# Altium footprint library WR-FPC_1.00mm.PcbLib: 115 footprints (part 1 of 8)
Each footprint in its own frame and in the unit in brackets; x right, y up, seen from the top. Pads: shape width x height; smd on the part's side, far side on the other; paste and mask are expansions set on the pad; w line width, h text height; cw(c..) or ccw(c..) is an arc to the next point about the centre after c.
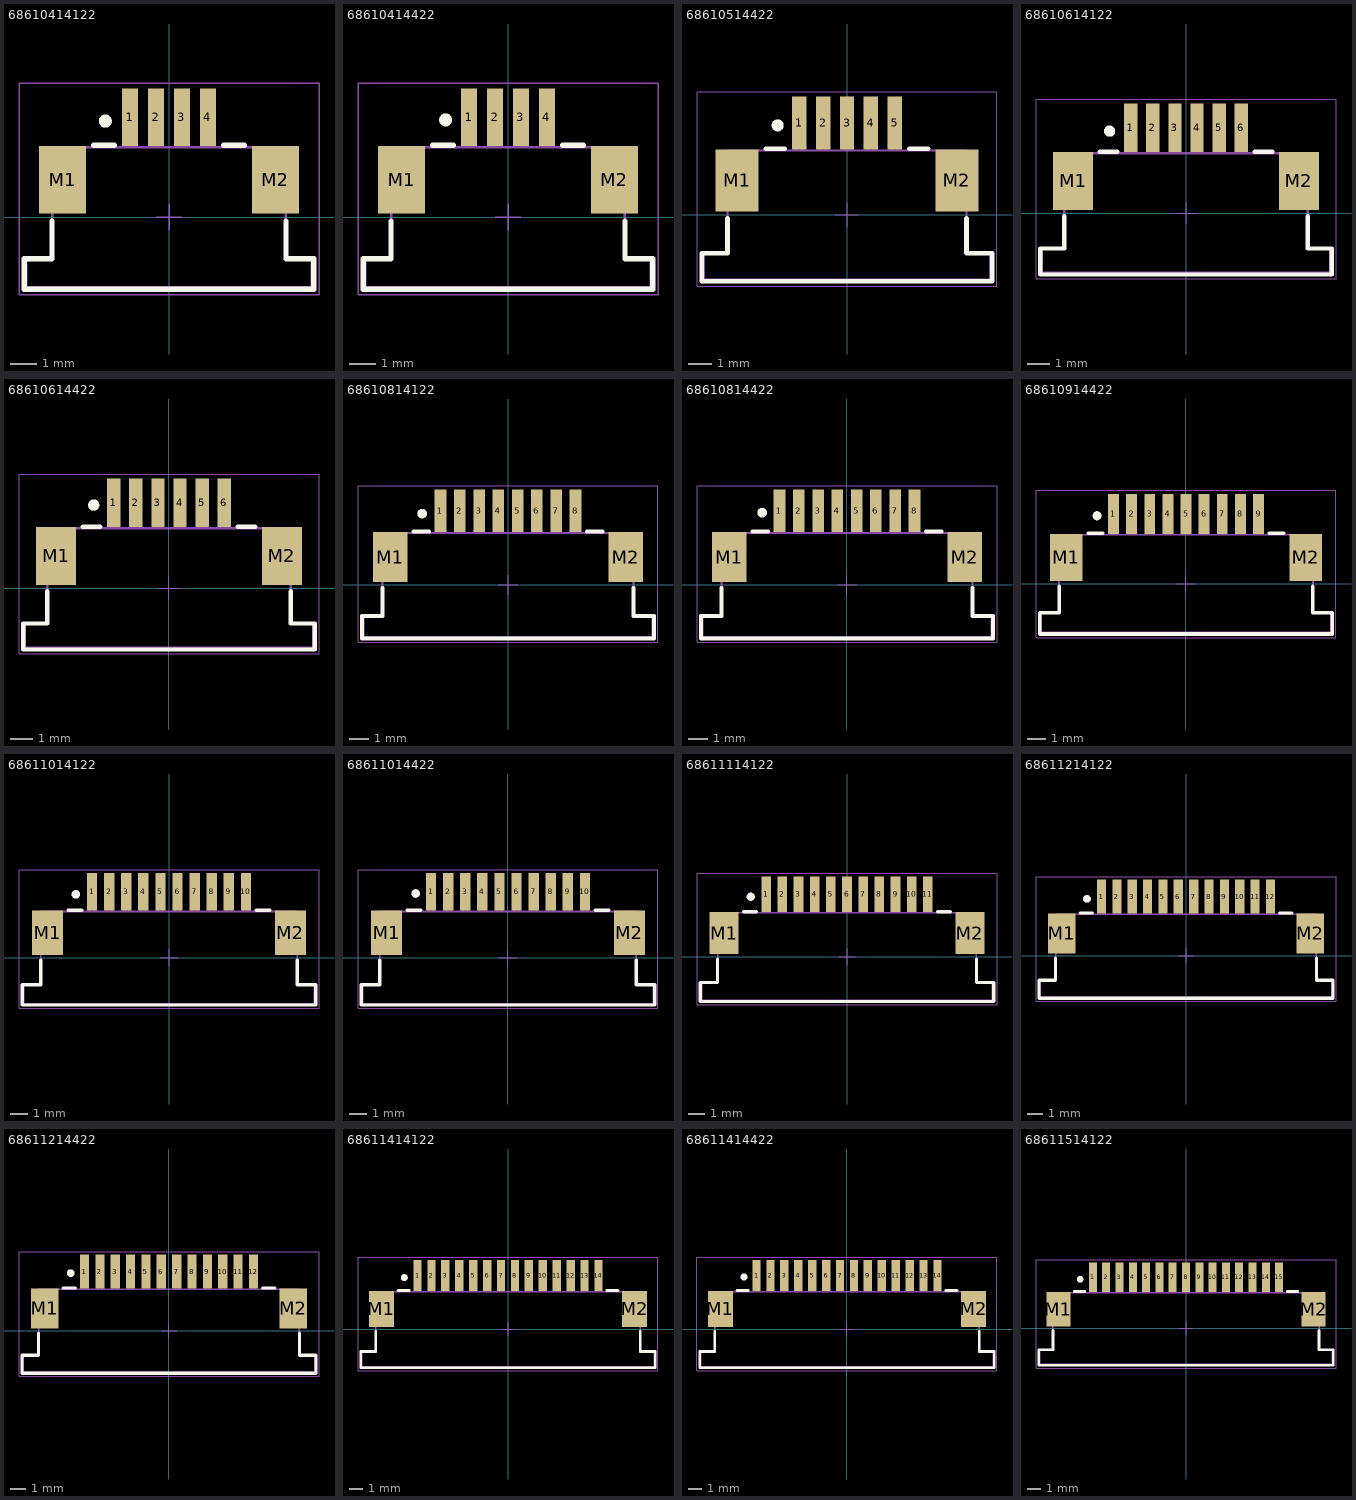
[diagram p0: the footprints below, top view; thin cyan lines are the x and y axes]

## 68610414122 [mm] "ZIF Connectors, Horizontal, Top Contact, pitch 1mm, 4p"
height 3.15
pads (6):
  rect 0.6x2.2 smd: 1(-1.5,3.85) 2(-0.5,3.85) 3(0.5,3.85) 4(1.5,3.85)
  rect 1.8x2.6 smd: M1(-4.1,1.45) M2(4.1,1.45)
Top Overlay:
  circle w0.25: c-2.45,3.7 r0.125
  lines w0.2: -4.5,-0.15 -4.5,-1.6 -5.575,-1.6 -5.575,-2.775 5.575,-2.775 5.575,-1.6 4.5,-1.6 4.5,-0.15 ; -2.9,2.775 -2.1,2.775 ; 2.1,2.775 2.9,2.775
Top Designator:
  text ".Designator" at -7.498,-0.5 h1.5
Top Component Outline:
  lines w0.1: -1.64,2.7 -1.64,4.4 -1.36,4.4 -1.36,2.7 ; -0.64,2.7 -0.64,4.4 -0.36,4.4 -0.36,2.7 ; 0.36,2.7 0.36,4.4 0.64,4.4 0.64,2.7 ; 1.36,2.7 1.36,4.4 1.64,4.4 1.64,2.7 ; -5.5,-2.7 5.5,-2.7 5.5,-1.6 4.5,-1.6 4.5,2.7 -4.5,2.7 -4.5,-1.6 -5.5,-1.6 -5.5,-2.7
Top 3D Body:
  lines w0.1: -1.64,2.7 -1.64,4.4 -1.36,4.4 -1.36,2.7 ; -0.64,2.7 -0.64,4.4 -0.36,4.4 -0.36,2.7 ; 0.36,2.7 0.36,4.4 0.64,4.4 0.64,2.7 ; 1.36,2.7 1.36,4.4 1.64,4.4 1.64,2.7 ; -5.5,-2.7 -5.5,-1.6 -4.5,-1.6 -4.5,2.7 4.5,2.7 4.5,-1.6 5.5,-1.6 5.5,-2.7 -5.5,-2.7
Top Courtyard:
  lines w0.05: -0.5,0 0.5,0 ; 0,-0.5 0,0.5 ; -5.775,-2.975 -5.775,5.15 5.775,5.15 5.775,-2.975 -5.775,-2.975
3D body "68610414122.stp": height 3.02, standoff 0.02, extent -5.5,-2.7 5.5,4.4

## 68610414422 [mm] "ZIF Connectors, Horizontal, Bottom Contact, pitch 1mm, 4p"
height 3.15
pads (6):
  rect 0.6x2.2 smd: 1(-1.5,3.85) 2(-0.5,3.85) 3(0.5,3.85) 4(1.5,3.85)
  rect 1.8x2.6 smd: M1(-4.1,1.45) M2(4.1,1.45)
Top Overlay:
  circle w0.25: c-2.4,3.75 r0.125
  lines w0.2: -4.5,-0.15 -4.5,-1.6 -5.575,-1.6 -5.575,-2.775 5.575,-2.775 5.575,-1.6 4.5,-1.6 4.5,-0.15 ; -2.9,2.775 -2.1,2.775 ; 2.1,2.775 2.9,2.775
Top Designator:
  text ".Designator" at -7.498,-0.5 h1.5
Top Component Outline:
  lines w0.1: -1.62,2.7 -1.62,4.4 -1.38,4.4 -1.38,2.7 ; -0.62,2.7 -0.62,4.4 -0.38,4.4 -0.38,2.7 ; 0.38,2.7 0.38,4.4 0.62,4.4 0.62,2.7 ; 1.38,2.7 1.38,4.4 1.62,4.4 1.62,2.7 ; -5.5,-2.7 -5.5,-1.6 -4.5,-1.6 -4.5,2.7 4.5,2.7 4.5,-1.6 5.5,-1.6 5.5,-2.7 -5.5,-2.7
Top 3D Body:
  lines w0.1: -1.62,2.7 -1.62,4.4 -1.38,4.4 -1.38,2.7 ; -0.62,2.7 -0.62,4.4 -0.38,4.4 -0.38,2.7 ; 0.38,2.7 0.38,4.4 0.62,4.4 0.62,2.7 ; 1.38,2.7 1.38,4.4 1.62,4.4 1.62,2.7 ; -5.5,-2.7 5.5,-2.7 5.5,-1.6 4.5,-1.6 4.5,2.7 -4.5,2.7 -4.5,-1.6 -5.5,-1.6 -5.5,-2.7
Top Courtyard:
  lines w0.05: -0.5,0 0.5,0 ; 0,-0.5 0,0.5 ; -5.775,-2.975 -5.775,5.15 5.775,5.15 5.775,-2.975 -5.775,-2.975
3D body "68610414422.stp": height 3.02, standoff 0.01, extent -5.5,-2.7 5.5,4.4

## 68610514422 [mm] "ZIF Connectors, Horizontal, Bottom Contact, pitch 1mm, 5p"
height 3.15
pads (7):
  rect 0.6x2.2 smd: 1(-2,3.85) 2(-1,3.85) 3(0,3.85) 4(1,3.85) 5(2,3.85)
  rect 1.8x2.6 smd: M1(-4.6,1.45) M2(4.6,1.45)
Top Overlay:
  circle w0.25: c-2.9,3.75 r0.125
  lines w0.2: -5,-0.15 -5,-1.6 -6.075,-1.6 -6.075,-2.775 6.075,-2.775 6.075,-1.6 5,-1.6 5,-0.15 ; -3.4,2.775 -2.6,2.775 ; 2.6,2.775 3.4,2.775
Top Designator:
  text ".Designator" at -7.498,-0.5 h1.5
Top Component Outline:
  lines w0.1: -2.12,2.7 -2.12,4.4 -1.88,4.4 -1.88,2.7 ; -1.12,2.7 -1.12,4.4 -0.88,4.4 -0.88,2.7 ; -0.12,2.7 -0.12,4.4 0.12,4.4 0.12,2.7 ; 0.88,2.7 0.88,4.4 1.12,4.4 1.12,2.7 ; 1.88,2.7 1.88,4.4 2.12,4.4 2.12,2.7 ; -6,-2.7 6,-2.7 6,-1.6 5,-1.6 5,2.7 -5,2.7 -5,-1.6 -6,-1.6 -6,-2.7
Top 3D Body:
  lines w0.1: -2.12,2.7 -2.12,4.4 -1.88,4.4 -1.88,2.7 ; -1.12,2.7 -1.12,4.4 -0.88,4.4 -0.88,2.7 ; -0.12,2.7 -0.12,4.4 0.12,4.4 0.12,2.7 ; 0.88,2.7 0.88,4.4 1.12,4.4 1.12,2.7 ; 1.88,2.7 1.88,4.4 2.12,4.4 2.12,2.7 ; -6,-2.7 -6,-1.6 -5,-1.6 -5,2.7 5,2.7 5,-1.6 6,-1.6 6,-2.7 -6,-2.7
Top Courtyard:
  lines w0.05: -0.5,0 0.5,0 ; 0,-0.5 0,0.5 ; -6.275,-2.975 6.275,-2.975 6.275,5.15 -6.275,5.15 -6.275,-2.975
3D body "68610514422.stp": height 3.02, standoff 0.01, extent -6,-2.7 6,4.4

## 68610614122 [mm] "ZIF Connectors, Horizontal, Top Contact, pitch 1mm, 6p"
height 3.15
pads (8):
  rect 0.6x2.2 smd: 1(-2.5,3.85) 2(-1.5,3.85) 3(-0.5,3.85) 4(0.5,3.85) 5(1.5,3.85) 6(2.5,3.85)
  rect 1.8x2.6 smd: M1(-5.1,1.45) M2(5.1,1.45)
Top Overlay:
  circle w0.25: c-3.45,3.7 r0.125
  lines w0.2: -5.5,-0.15 -5.5,-1.6 -6.575,-1.6 -6.575,-2.775 6.575,-2.775 6.575,-1.6 5.5,-1.6 5.5,-0.15 ; -3.9,2.775 -3.1,2.775 ; 3.1,2.775 3.9,2.775
Top Designator:
  text ".Designator" at -7.498,-0.5 h1.5
Top Component Outline:
  lines w0.1: -2.64,2.7 -2.64,4.4 -2.36,4.4 -2.36,2.7 ; -1.64,2.7 -1.64,4.4 -1.36,4.4 -1.36,2.7 ; -0.64,2.7 -0.64,4.4 -0.36,4.4 -0.36,2.7 ; 0.36,2.7 0.36,4.4 0.64,4.4 0.64,2.7 ; 1.36,2.7 1.36,4.4 1.64,4.4 1.64,2.7 ; 2.36,2.7 2.36,4.4 2.64,4.4 2.64,2.7 ; -6.5,-2.7 6.5,-2.7 6.5,-1.6 5.5,-1.6 5.5,2.7 -5.5,2.7 -5.5,-1.6 -6.5,-1.6 -6.5,-2.7
Top 3D Body:
  lines w0.1: -2.64,2.7 -2.64,4.4 -2.36,4.4 -2.36,2.7 ; -1.64,2.7 -1.64,4.4 -1.36,4.4 -1.36,2.7 ; -0.64,2.7 -0.64,4.4 -0.36,4.4 -0.36,2.7 ; 0.36,2.7 0.36,4.4 0.64,4.4 0.64,2.7 ; 1.36,2.7 1.36,4.4 1.64,4.4 1.64,2.7 ; 2.36,2.7 2.36,4.4 2.64,4.4 2.64,2.7 ; -6.5,-2.7 -6.5,-1.6 -5.5,-1.6 -5.5,2.7 5.5,2.7 5.5,-1.6 6.5,-1.6 6.5,-2.7 -6.5,-2.7
Top Courtyard:
  lines w0.05: -0.5,0 0.5,0 ; 0,-0.5 0,0.5 ; -6.775,-2.975 -6.775,5.15 6.775,5.15 6.775,-2.975 -6.775,-2.975
3D body "68610614122.stp": height 3.02, standoff 0.02, extent -6.5,-2.7 6.5,4.4

## 68610614422 [mm] "ZIF Connectors, Horizontal, Bottom Contact, pitch 1mm, 6p"
height 3.15
pads (8):
  rect 0.6x2.2 smd: 1(-2.5,3.85) 2(-1.5,3.85) 3(-0.5,3.85) 4(0.5,3.85) 5(1.5,3.85) 6(2.5,3.85)
  rect 1.8x2.6 smd: M1(-5.1,1.45) M2(5.1,1.45)
Top Overlay:
  circle w0.25: c-3.4,3.75 r0.125
  lines w0.2: -5.5,-0.15 -5.5,-1.6 -6.575,-1.6 -6.575,-2.775 6.575,-2.775 6.575,-1.6 5.5,-1.6 5.5,-0.15 ; -3.9,2.775 -3.1,2.775 ; 3.1,2.775 3.9,2.775
Top Designator:
  text ".Designator" at -7.498,-0.5 h1.5
Top Component Outline:
  lines w0.1: -2.62,2.7 -2.62,4.4 -2.38,4.4 -2.38,2.7 ; -1.62,2.7 -1.62,4.4 -1.38,4.4 -1.38,2.7 ; -0.62,2.7 -0.62,4.4 -0.38,4.4 -0.38,2.7 ; 0.38,2.7 0.38,4.4 0.62,4.4 0.62,2.7 ; 1.38,2.7 1.38,4.4 1.62,4.4 1.62,2.7 ; 2.38,2.7 2.38,4.4 2.62,4.4 2.62,2.7 ; -6.5,-2.7 -6.5,-1.6 -5.5,-1.6 -5.5,2.7 5.5,2.7 5.5,-1.6 6.5,-1.6 6.5,-2.7 -6.5,-2.7
Top 3D Body:
  lines w0.1: -2.62,2.7 -2.62,4.4 -2.38,4.4 -2.38,2.7 ; -1.62,2.7 -1.62,4.4 -1.38,4.4 -1.38,2.7 ; -0.62,2.7 -0.62,4.4 -0.38,4.4 -0.38,2.7 ; 0.38,2.7 0.38,4.4 0.62,4.4 0.62,2.7 ; 1.38,2.7 1.38,4.4 1.62,4.4 1.62,2.7 ; 2.38,2.7 2.38,4.4 2.62,4.4 2.62,2.7 ; -6.5,-2.7 6.5,-2.7 6.5,-1.6 5.5,-1.6 5.5,2.7 -5.5,2.7 -5.5,-1.6 -6.5,-1.6 -6.5,-2.7
Top Courtyard:
  lines w0.05: -0.5,0 0.5,0 ; 0,-0.5 0,0.5 ; -6.775,-2.975 -6.775,5.15 6.775,5.15 6.775,-2.975 -6.775,-2.975
3D body "68610614422.stp": height 3.02, standoff 0.01, extent -6.5,-2.7 6.5,4.4

## 68610814122 [mm] "ZIF Connectors, Horizontal, Top Contact, pitch 1mm, 8p"
height 3.15
pads (10):
  rect 0.6x2.2 smd: 1(-3.5,3.85) 2(-2.5,3.85) 3(-1.5,3.85) 4(-0.5,3.85) 5(0.5,3.85) 6(1.5,3.85) 7(2.5,3.85) 8(3.5,3.85)
  rect 1.8x2.6 smd: M1(-6.1,1.45) M2(6.1,1.45)
Top Overlay:
  circle w0.25: c-4.45,3.7 r0.125
  lines w0.2: -6.5,-0.15 -6.5,-1.6 -7.575,-1.6 -7.575,-2.775 7.575,-2.775 7.575,-1.6 6.5,-1.6 6.5,-0.15 ; -4.9,2.775 -4.1,2.775 ; 4.1,2.775 4.9,2.775
Top Designator:
  text ".Designator" at -7.498,-0.5 h1.5
Top Component Outline:
  lines w0.1: -3.64,2.7 -3.64,4.4 -3.36,4.4 -3.36,2.7 ; -2.64,2.7 -2.64,4.4 -2.36,4.4 -2.36,2.7 ; -1.64,2.7 -1.64,4.4 -1.36,4.4 -1.36,2.7 ; -0.64,2.7 -0.64,4.4 -0.36,4.4 -0.36,2.7 ; 0.36,2.7 0.36,4.4 0.64,4.4 0.64,2.7 ; 1.36,2.7 1.36,4.4 1.64,4.4 1.64,2.7 ; 2.36,2.7 2.36,4.4 2.64,4.4 2.64,2.7 ; 3.36,2.7 3.36,4.4 3.64,4.4 3.64,2.7 ; -7.5,-2.7 7.5,-2.7 7.5,-1.6 6.5,-1.6 6.5,2.7 -6.5,2.7 -6.5,-1.6 -7.5,-1.6 -7.5,-2.7
Top 3D Body:
  lines w0.1: -3.64,2.7 -3.64,4.4 -3.36,4.4 -3.36,2.7 ; -2.64,2.7 -2.64,4.4 -2.36,4.4 -2.36,2.7 ; -1.64,2.7 -1.64,4.4 -1.36,4.4 -1.36,2.7 ; -0.64,2.7 -0.64,4.4 -0.36,4.4 -0.36,2.7 ; 0.36,2.7 0.36,4.4 0.64,4.4 0.64,2.7 ; 1.36,2.7 1.36,4.4 1.64,4.4 1.64,2.7 ; 2.36,2.7 2.36,4.4 2.64,4.4 2.64,2.7 ; 3.36,2.7 3.36,4.4 3.64,4.4 3.64,2.7 ; -7.5,-2.7 -7.5,-1.6 -6.5,-1.6 -6.5,2.7 6.5,2.7 6.5,-1.6 7.5,-1.6 7.5,-2.7 -7.5,-2.7
Top Courtyard:
  lines w0.05: -0.5,0 0.5,0 ; 0,-0.5 0,0.5 ; -7.775,-2.975 -7.775,5.15 7.775,5.15 7.775,-2.975 -7.775,-2.975
3D body "68610814122.stp": height 3.02, standoff 0.02, extent -7.5,-2.7 7.5,4.4

## 68610814422 [mm] "ZIF Connectors, Horizontal, Bottom Contact, pitch 1mm, 8p"
height 3.15
pads (10):
  rect 0.6x2.2 smd: 1(-3.5,3.85) 2(-2.5,3.85) 3(-1.5,3.85) 4(-0.5,3.85) 5(0.5,3.85) 6(1.5,3.85) 7(2.5,3.85) 8(3.5,3.85)
  rect 1.8x2.6 smd: M1(-6.1,1.45) M2(6.1,1.45)
Top Overlay:
  circle w0.25: c-4.4,3.75 r0.125
  lines w0.2: -6.5,-0.15 -6.5,-1.6 -7.575,-1.6 -7.575,-2.775 7.575,-2.775 7.575,-1.6 6.5,-1.6 6.5,-0.15 ; -4.9,2.775 -4.1,2.775 ; 4.1,2.775 4.9,2.775
Top Designator:
  text ".Designator" at -7.498,-0.5 h1.5
Top Component Outline:
  lines w0.1: -3.62,2.7 -3.62,4.4 -3.38,4.4 -3.38,2.7 ; -2.62,2.7 -2.62,4.4 -2.38,4.4 -2.38,2.7 ; -1.62,2.7 -1.62,4.4 -1.38,4.4 -1.38,2.7 ; -0.62,2.7 -0.62,4.4 -0.38,4.4 -0.38,2.7 ; 0.38,2.7 0.38,4.4 0.62,4.4 0.62,2.7 ; 1.38,2.7 1.38,4.4 1.62,4.4 1.62,2.7 ; 2.38,2.7 2.38,4.4 2.62,4.4 2.62,2.7 ; 3.38,2.7 3.38,4.4 3.62,4.4 3.62,2.7 ; -7.5,-2.7 -7.5,-1.6 -6.5,-1.6 -6.5,2.7 6.5,2.7 6.5,-1.6 7.5,-1.6 7.5,-2.7 -7.5,-2.7
Top 3D Body:
  lines w0.1: -3.62,2.7 -3.62,4.4 -3.38,4.4 -3.38,2.7 ; -2.62,2.7 -2.62,4.4 -2.38,4.4 -2.38,2.7 ; -1.62,2.7 -1.62,4.4 -1.38,4.4 -1.38,2.7 ; -0.62,2.7 -0.62,4.4 -0.38,4.4 -0.38,2.7 ; 0.38,2.7 0.38,4.4 0.62,4.4 0.62,2.7 ; 1.38,2.7 1.38,4.4 1.62,4.4 1.62,2.7 ; 2.38,2.7 2.38,4.4 2.62,4.4 2.62,2.7 ; 3.38,2.7 3.38,4.4 3.62,4.4 3.62,2.7 ; -7.5,-2.7 7.5,-2.7 7.5,-1.6 6.5,-1.6 6.5,2.7 -6.5,2.7 -6.5,-1.6 -7.5,-1.6 -7.5,-2.7
Top Courtyard:
  lines w0.05: -0.5,0 0.5,0 ; 0,-0.5 0,0.5 ; -7.775,-2.975 -7.775,5.15 7.775,5.15 7.775,-2.975 -7.775,-2.975
3D body "68610814422.stp": height 3.02, standoff 0.01, extent -7.5,-2.7 7.5,4.4

## 68610914422 [mm] "ZIF Connectors, Horizontal, Bottom Contact, pitch 1mm, 9p"
height 3.15
pads (11):
  rect 0.6x2.2 smd: 1(-4,3.85) 2(-3,3.85) 3(-2,3.85) 4(-1,3.85) 5(0,3.85) 6(1,3.85) 7(2,3.85) 8(3,3.85) 9(4,3.85)
  rect 1.8x2.6 smd: M1(-6.6,1.45) M2(6.6,1.45)
Top Overlay:
  circle w0.25: c-4.9,3.75 r0.125
  lines w0.2: -7,-0.15 -7,-1.6 -8.075,-1.6 -8.075,-2.775 8.075,-2.775 8.075,-1.6 7,-1.6 7,-0.15 ; -5.4,2.775 -4.6,2.775 ; 4.6,2.775 5.4,2.775
Top Designator:
  text ".Designator" at -7.498,-0.5 h1.5
Top Component Outline:
  lines w0.1: -4.12,2.7 -4.12,4.4 -3.88,4.4 -3.88,2.7 ; -3.12,2.7 -3.12,4.4 -2.88,4.4 -2.88,2.7 ; -2.12,2.7 -2.12,4.4 -1.88,4.4 -1.88,2.7 ; -1.12,2.7 -1.12,4.4 -0.88,4.4 -0.88,2.7 ; -0.12,2.7 -0.12,4.4 0.12,4.4 0.12,2.7 ; 0.88,2.7 0.88,4.4 1.12,4.4 1.12,2.7 ; 1.88,2.7 1.88,4.4 2.12,4.4 2.12,2.7 ; 2.88,2.7 2.88,4.4 3.12,4.4 3.12,2.7 ; 3.88,2.7 3.88,4.4 4.12,4.4 4.12,2.7 ; -8,-2.7 8,-2.7 8,-1.6 7,-1.6 7,2.7 -7,2.7 -7,-1.6 -8,-1.6 -8,-2.7
Top 3D Body:
  lines w0.1: -4.12,2.7 -4.12,4.4 -3.88,4.4 -3.88,2.7 ; -3.12,2.7 -3.12,4.4 -2.88,4.4 -2.88,2.7 ; -2.12,2.7 -2.12,4.4 -1.88,4.4 -1.88,2.7 ; -1.12,2.7 -1.12,4.4 -0.88,4.4 -0.88,2.7 ; -0.12,2.7 -0.12,4.4 0.12,4.4 0.12,2.7 ; 0.88,2.7 0.88,4.4 1.12,4.4 1.12,2.7 ; 1.88,2.7 1.88,4.4 2.12,4.4 2.12,2.7 ; 2.88,2.7 2.88,4.4 3.12,4.4 3.12,2.7 ; 3.88,2.7 3.88,4.4 4.12,4.4 4.12,2.7 ; -8,-2.7 -8,-1.6 -7,-1.6 -7,2.7 7,2.7 7,-1.6 8,-1.6 8,-2.7 -8,-2.7
Top Courtyard:
  lines w0.05: -0.5,0 0.5,0 ; 0,-0.5 0,0.5 ; -8.275,-2.975 8.275,-2.975 8.275,5.15 -8.275,5.15 -8.275,-2.975
3D body "68610914422.stp": height 3.02, standoff 0.01, extent -8,-2.7 8,4.4

## 68611014122 [mm] "ZIF Connectors, Horizontal, Top Contact, pitch 1mm, 10p"
height 3.15
pads (12):
  rect 0.6x2.2 smd: 1(-4.5,3.85) 2(-3.5,3.85) 3(-2.5,3.85) 4(-1.5,3.85) 5(-0.5,3.85) 6(0.5,3.85) 7(1.5,3.85) 8(2.5,3.85) 9(3.5,3.85) 10(4.5,3.85)
  rect 1.8x2.6 smd: M1(-7.1,1.45) M2(7.1,1.45)
Top Overlay:
  circle w0.25: c-5.45,3.7 r0.125
  lines w0.2: -7.5,-0.15 -7.5,-1.6 -8.575,-1.6 -8.575,-2.775 8.575,-2.775 8.575,-1.6 7.5,-1.6 7.5,-0.15 ; -5.9,2.775 -5.1,2.775 ; 5.1,2.775 5.9,2.775
Top Designator:
  text ".Designator" at -7.498,-0.5 h1.5
Top Component Outline:
  lines w0.1: -4.64,2.7 -4.64,4.4 -4.36,4.4 -4.36,2.7 ; -3.64,2.7 -3.64,4.4 -3.36,4.4 -3.36,2.7 ; -2.64,2.7 -2.64,4.4 -2.36,4.4 -2.36,2.7 ; -1.64,2.7 -1.64,4.4 -1.36,4.4 -1.36,2.7 ; -0.64,2.7 -0.64,4.4 -0.36,4.4 -0.36,2.7 ; 0.36,2.7 0.36,4.4 0.64,4.4 0.64,2.7 ; 1.36,2.7 1.36,4.4 1.64,4.4 1.64,2.7 ; 2.36,2.7 2.36,4.4 2.64,4.4 2.64,2.7 ; 3.36,2.7 3.36,4.4 3.64,4.4 3.64,2.7 ; 4.36,2.7 4.36,4.4 4.64,4.4 4.64,2.7 ; -8.5,-2.7 8.5,-2.7 8.5,-1.6 7.5,-1.6 7.5,2.7 -7.5,2.7 -7.5,-1.6 -8.5,-1.6 -8.5,-2.7
Top 3D Body:
  lines w0.1: -4.64,2.7 -4.64,4.4 -4.36,4.4 -4.36,2.7 ; -3.64,2.7 -3.64,4.4 -3.36,4.4 -3.36,2.7 ; -2.64,2.7 -2.64,4.4 -2.36,4.4 -2.36,2.7 ; -1.64,2.7 -1.64,4.4 -1.36,4.4 -1.36,2.7 ; -0.64,2.7 -0.64,4.4 -0.36,4.4 -0.36,2.7 ; 0.36,2.7 0.36,4.4 0.64,4.4 0.64,2.7 ; 1.36,2.7 1.36,4.4 1.64,4.4 1.64,2.7 ; 2.36,2.7 2.36,4.4 2.64,4.4 2.64,2.7 ; 3.36,2.7 3.36,4.4 3.64,4.4 3.64,2.7 ; 4.36,2.7 4.36,4.4 4.64,4.4 4.64,2.7 ; -8.5,-2.7 -8.5,-1.6 -7.5,-1.6 -7.5,2.7 7.5,2.7 7.5,-1.6 8.5,-1.6 8.5,-2.7 -8.5,-2.7
Top Courtyard:
  lines w0.05: -0.5,0 0.5,0 ; 0,-0.5 0,0.5 ; -8.775,-2.975 -8.775,5.15 8.775,5.15 8.775,-2.975 -8.775,-2.975
3D body "68611014122.stp": height 3.02, standoff 0.02, extent -8.5,-2.7 8.5,4.4

## 68611014422 [mm] "ZIF Connectors, Horizontal, Bottom Contact, pitch 1mm, 10p"
height 3.15
pads (12):
  rect 0.6x2.2 smd: 1(-4.5,3.85) 2(-3.5,3.85) 3(-2.5,3.85) 4(-1.5,3.85) 5(-0.5,3.85) 6(0.5,3.85) 7(1.5,3.85) 8(2.5,3.85) 9(3.5,3.85) 10(4.5,3.85)
  rect 1.8x2.6 smd: M1(-7.1,1.45) M2(7.1,1.45)
Top Overlay:
  circle w0.25: c-5.4,3.75 r0.125
  lines w0.2: -7.5,-0.15 -7.5,-1.6 -8.575,-1.6 -8.575,-2.775 8.575,-2.775 8.575,-1.6 7.5,-1.6 7.5,-0.15 ; -5.9,2.775 -5.1,2.775 ; 5.1,2.775 5.9,2.775
Top Designator:
  text ".Designator" at -7.498,-0.5 h1.5
Top Component Outline:
  lines w0.1: -4.62,2.7 -4.62,4.4 -4.38,4.4 -4.38,2.7 ; -3.62,2.7 -3.62,4.4 -3.38,4.4 -3.38,2.7 ; -2.62,2.7 -2.62,4.4 -2.38,4.4 -2.38,2.7 ; -1.62,2.7 -1.62,4.4 -1.38,4.4 -1.38,2.7 ; -0.62,2.7 -0.62,4.4 -0.38,4.4 -0.38,2.7 ; 0.38,2.7 0.38,4.4 0.62,4.4 0.62,2.7 ; 1.38,2.7 1.38,4.4 1.62,4.4 1.62,2.7 ; 2.38,2.7 2.38,4.4 2.62,4.4 2.62,2.7 ; 3.38,2.7 3.38,4.4 3.62,4.4 3.62,2.7 ; 4.38,2.7 4.38,4.4 4.62,4.4 4.62,2.7 ; -8.5,-2.7 8.5,-2.7 8.5,-1.6 7.5,-1.6 7.5,2.7 -7.5,2.7 -7.5,-1.6 -8.5,-1.6 -8.5,-2.7
Top 3D Body:
  lines w0.1: -4.62,2.7 -4.62,4.4 -4.38,4.4 -4.38,2.7 ; -3.62,2.7 -3.62,4.4 -3.38,4.4 -3.38,2.7 ; -2.62,2.7 -2.62,4.4 -2.38,4.4 -2.38,2.7 ; -1.62,2.7 -1.62,4.4 -1.38,4.4 -1.38,2.7 ; -0.62,2.7 -0.62,4.4 -0.38,4.4 -0.38,2.7 ; 0.38,2.7 0.38,4.4 0.62,4.4 0.62,2.7 ; 1.38,2.7 1.38,4.4 1.62,4.4 1.62,2.7 ; 2.38,2.7 2.38,4.4 2.62,4.4 2.62,2.7 ; 3.38,2.7 3.38,4.4 3.62,4.4 3.62,2.7 ; 4.38,2.7 4.38,4.4 4.62,4.4 4.62,2.7 ; -8.5,-2.7 -8.5,-1.6 -7.5,-1.6 -7.5,2.7 7.5,2.7 7.5,-1.6 8.5,-1.6 8.5,-2.7 -8.5,-2.7
Top Courtyard:
  lines w0.05: -0.5,0 0.5,0 ; 0,-0.5 0,0.5 ; -8.775,-2.975 8.775,-2.975 8.775,5.15 -8.775,5.15 -8.775,-2.975
3D body "68611014422.stp": height 3.02, standoff 0.01, extent -8.5,-2.7 8.5,4.4

## 68611114122 [mm] "ZIF Connectors, Horizontal, Top Contact, pitch 1mm, 11p"
height 3.15
pads (13):
  rect 0.6x2.2 smd: 1(-5,3.85) 2(-4,3.85) 3(-3,3.85) 4(-2,3.85) 5(-1,3.85) 6(0,3.85) 7(1,3.85) 8(2,3.85) 9(3,3.85) 10(4,3.85) 11(5,3.85)
  rect 1.8x2.6 smd: M1(-7.6,1.45) M2(7.6,1.45)
Top Overlay:
  circle w0.25: c-5.95,3.7 r0.125
  lines w0.2: -8,-0.15 -8,-1.6 -9.075,-1.6 -9.075,-2.775 9.075,-2.775 9.075,-1.6 8,-1.6 8,-0.15 ; -6.4,2.775 -5.6,2.775 ; 5.6,2.775 6.4,2.775
Top Designator:
  text ".Designator" at -7.498,-0.5 h1.5
Top Component Outline:
  lines w0.1: -5.14,2.7 -5.14,4.4 -4.86,4.4 -4.86,2.7 ; -4.14,2.7 -4.14,4.4 -3.86,4.4 -3.86,2.7 ; -3.14,2.7 -3.14,4.4 -2.86,4.4 -2.86,2.7 ; -2.14,2.7 -2.14,4.4 -1.86,4.4 -1.86,2.7 ; -1.14,2.7 -1.14,4.4 -0.86,4.4 -0.86,2.7 ; -0.14,2.7 -0.14,4.4 0.14,4.4 0.14,2.7 ; 0.86,2.7 0.86,4.4 1.14,4.4 1.14,2.7 ; 1.86,2.7 1.86,4.4 2.14,4.4 2.14,2.7 ; 2.86,2.7 2.86,4.4 3.14,4.4 3.14,2.7 ; 3.86,2.7 3.86,4.4 4.14,4.4 4.14,2.7 ; 4.86,2.7 4.86,4.4 5.14,4.4 5.14,2.7 ; -9,-2.7 9,-2.7 9,-1.6 8,-1.6 8,2.7 -8,2.7 -8,-1.6 -9,-1.6 -9,-2.7
Top 3D Body:
  lines w0.1: -5.14,2.7 -5.14,4.4 -4.86,4.4 -4.86,2.7 ; -4.14,2.7 -4.14,4.4 -3.86,4.4 -3.86,2.7 ; -3.14,2.7 -3.14,4.4 -2.86,4.4 -2.86,2.7 ; -2.14,2.7 -2.14,4.4 -1.86,4.4 -1.86,2.7 ; -1.14,2.7 -1.14,4.4 -0.86,4.4 -0.86,2.7 ; -0.14,2.7 -0.14,4.4 0.14,4.4 0.14,2.7 ; 0.86,2.7 0.86,4.4 1.14,4.4 1.14,2.7 ; 1.86,2.7 1.86,4.4 2.14,4.4 2.14,2.7 ; 2.86,2.7 2.86,4.4 3.14,4.4 3.14,2.7 ; 3.86,2.7 3.86,4.4 4.14,4.4 4.14,2.7 ; 4.86,2.7 4.86,4.4 5.14,4.4 5.14,2.7 ; -9,-2.7 -9,-1.6 -8,-1.6 -8,2.7 8,2.7 8,-1.6 9,-1.6 9,-2.7 -9,-2.7
Top Courtyard:
  lines w0.05: -0.5,0 0.5,0 ; 0,-0.5 0,0.5 ; -9.275,-2.975 -9.275,5.15 9.275,5.15 9.275,-2.975 -9.275,-2.975
3D body "68611114122.stp": height 3.02, standoff 0.02, extent -9,-2.7 9,4.4

## 68611214122 [mm] "ZIF Connectors, Horizontal, Top Contact, pitch 1mm, 12p"
height 3.15
pads (14):
  rect 0.6x2.2 smd: 1(-5.5,3.85) 2(-4.5,3.85) 3(-3.5,3.85) 4(-2.5,3.85) 5(-1.5,3.85) 6(-0.5,3.85) 7(0.5,3.85) 8(1.5,3.85) 9(2.5,3.85) 10(3.5,3.85) 11(4.5,3.85) 12(5.5,3.85)
  rect 1.8x2.6 smd: M1(-8.1,1.45) M2(8.1,1.45)
Top Overlay:
  circle w0.25: c-6.45,3.7 r0.125
  lines w0.2: -8.5,-0.15 -8.5,-1.6 -9.575,-1.6 -9.575,-2.775 9.575,-2.775 9.575,-1.6 8.5,-1.6 8.5,-0.15 ; -6.9,2.775 -6.1,2.775 ; 6.1,2.775 6.9,2.775
Top Designator:
  text ".Designator" at -7.498,-0.5 h1.5
Top Component Outline:
  lines w0.1: -5.64,2.7 -5.64,4.4 -5.36,4.4 -5.36,2.7 ; -4.64,2.7 -4.64,4.4 -4.36,4.4 -4.36,2.7 ; -3.64,2.7 -3.64,4.4 -3.36,4.4 -3.36,2.7 ; -2.64,2.7 -2.64,4.4 -2.36,4.4 -2.36,2.7 ; -1.64,2.7 -1.64,4.4 -1.36,4.4 -1.36,2.7 ; -0.64,2.7 -0.64,4.4 -0.36,4.4 -0.36,2.7 ; 0.36,2.7 0.36,4.4 0.64,4.4 0.64,2.7 ; 1.36,2.7 1.36,4.4 1.64,4.4 1.64,2.7 ; 2.36,2.7 2.36,4.4 2.64,4.4 2.64,2.7 ; 3.36,2.7 3.36,4.4 3.64,4.4 3.64,2.7 ; 4.36,2.7 4.36,4.4 4.64,4.4 4.64,2.7 ; 5.36,2.7 5.36,4.4 5.64,4.4 5.64,2.7 ; -9.5,-2.7 -9.5,-1.6 -8.5,-1.6 -8.5,2.7 8.5,2.7 8.5,-1.6 9.5,-1.6 9.5,-2.7 -9.5,-2.7
Top 3D Body:
  lines w0.1: -5.64,2.7 -5.64,4.4 -5.36,4.4 -5.36,2.7 ; -4.64,2.7 -4.64,4.4 -4.36,4.4 -4.36,2.7 ; -3.64,2.7 -3.64,4.4 -3.36,4.4 -3.36,2.7 ; -2.64,2.7 -2.64,4.4 -2.36,4.4 -2.36,2.7 ; -1.64,2.7 -1.64,4.4 -1.36,4.4 -1.36,2.7 ; -0.64,2.7 -0.64,4.4 -0.36,4.4 -0.36,2.7 ; 0.36,2.7 0.36,4.4 0.64,4.4 0.64,2.7 ; 1.36,2.7 1.36,4.4 1.64,4.4 1.64,2.7 ; 2.36,2.7 2.36,4.4 2.64,4.4 2.64,2.7 ; 3.36,2.7 3.36,4.4 3.64,4.4 3.64,2.7 ; 4.36,2.7 4.36,4.4 4.64,4.4 4.64,2.7 ; 5.36,2.7 5.36,4.4 5.64,4.4 5.64,2.7 ; -9.5,-2.7 9.5,-2.7 9.5,-1.6 8.5,-1.6 8.5,2.7 -8.5,2.7 -8.5,-1.6 -9.5,-1.6 -9.5,-2.7
Top Courtyard:
  lines w0.05: -0.5,0 0.5,0 ; 0,-0.5 0,0.5 ; -9.775,-2.975 9.775,-2.975 9.775,5.15 -9.775,5.15 -9.775,-2.975
3D body "68611214122.stp": height 3.02, standoff 0.02, extent -9.5,-2.7 9.5,4.4

## 68611214422 [mm] "ZIF Connectors, Horizontal, Bottom Contact, pitch 1mm, 12p"
height 3.15
pads (14):
  rect 0.6x2.2 smd: 1(-5.5,3.85) 2(-4.5,3.85) 3(-3.5,3.85) 4(-2.5,3.85) 5(-1.5,3.85) 6(-0.5,3.85) 7(0.5,3.85) 8(1.5,3.85) 9(2.5,3.85) 10(3.5,3.85) 11(4.5,3.85) 12(5.5,3.85)
  rect 1.8x2.6 smd: M1(-8.1,1.45) M2(8.1,1.45)
Top Overlay:
  circle w0.25: c-6.4,3.75 r0.125
  lines w0.2: -8.5,-0.15 -8.5,-1.6 -9.575,-1.6 -9.575,-2.775 9.575,-2.775 9.575,-1.6 8.5,-1.6 8.5,-0.15 ; -6.9,2.775 -6.1,2.775 ; 6.1,2.775 6.9,2.775
Top Designator:
  text ".Designator" at -7.498,-0.5 h1.5
Top Component Outline:
  lines w0.1: -5.62,2.7 -5.62,4.4 -5.38,4.4 -5.38,2.7 ; -4.62,2.7 -4.62,4.4 -4.38,4.4 -4.38,2.7 ; -3.62,2.7 -3.62,4.4 -3.38,4.4 -3.38,2.7 ; -2.62,2.7 -2.62,4.4 -2.38,4.4 -2.38,2.7 ; -1.62,2.7 -1.62,4.4 -1.38,4.4 -1.38,2.7 ; -0.62,2.7 -0.62,4.4 -0.38,4.4 -0.38,2.7 ; 0.38,2.7 0.38,4.4 0.62,4.4 0.62,2.7 ; 1.38,2.7 1.38,4.4 1.62,4.4 1.62,2.7 ; 2.38,2.7 2.38,4.4 2.62,4.4 2.62,2.7 ; 3.38,2.7 3.38,4.4 3.62,4.4 3.62,2.7 ; 4.38,2.7 4.38,4.4 4.62,4.4 4.62,2.7 ; 5.38,2.7 5.38,4.4 5.62,4.4 5.62,2.7 ; -9.5,-2.7 9.5,-2.7 9.5,-1.6 8.5,-1.6 8.5,2.7 -8.5,2.7 -8.5,-1.6 -9.5,-1.6 -9.5,-2.7
Top 3D Body:
  lines w0.1: -5.62,2.7 -5.62,4.4 -5.38,4.4 -5.38,2.7 ; -4.62,2.7 -4.62,4.4 -4.38,4.4 -4.38,2.7 ; -3.62,2.7 -3.62,4.4 -3.38,4.4 -3.38,2.7 ; -2.62,2.7 -2.62,4.4 -2.38,4.4 -2.38,2.7 ; -1.62,2.7 -1.62,4.4 -1.38,4.4 -1.38,2.7 ; -0.62,2.7 -0.62,4.4 -0.38,4.4 -0.38,2.7 ; 0.38,2.7 0.38,4.4 0.62,4.4 0.62,2.7 ; 1.38,2.7 1.38,4.4 1.62,4.4 1.62,2.7 ; 2.38,2.7 2.38,4.4 2.62,4.4 2.62,2.7 ; 3.38,2.7 3.38,4.4 3.62,4.4 3.62,2.7 ; 4.38,2.7 4.38,4.4 4.62,4.4 4.62,2.7 ; 5.38,2.7 5.38,4.4 5.62,4.4 5.62,2.7 ; -9.5,-2.7 -9.5,-1.6 -8.5,-1.6 -8.5,2.7 8.5,2.7 8.5,-1.6 9.5,-1.6 9.5,-2.7 -9.5,-2.7
Top Courtyard:
  lines w0.05: -0.5,0 0.5,0 ; 0,-0.5 0,0.5 ; -9.775,-2.975 9.775,-2.975 9.775,5.15 -9.775,5.15 -9.775,-2.975
3D body "68611214422.stp": height 3.02, standoff 0.01, extent -9.5,-2.7 9.5,4.4

## 68611414122 [mm] "ZIF Connectors, Horizontal, Top Contact, pitch 1mm, 14p"
height 3.15
pads (16):
  rect 0.6x2.2 smd: 1(-6.5,3.85) 2(-5.5,3.85) 3(-4.5,3.85) 4(-3.5,3.85) 5(-2.5,3.85) 6(-1.5,3.85) 7(-0.5,3.85) 8(0.5,3.85) 9(1.5,3.85) 10(2.5,3.85) 11(3.5,3.85) 12(4.5,3.85) 13(5.5,3.85) 14(6.5,3.85)
  rect 1.8x2.6 smd: M1(-9.1,1.45) M2(9.1,1.45)
Top Overlay:
  circle w0.25: c-7.45,3.7 r0.125
  lines w0.2: -9.5,-0.15 -9.5,-1.6 -10.575,-1.6 -10.575,-2.775 10.575,-2.775 10.575,-1.6 9.5,-1.6 9.5,-0.15 ; -7.9,2.775 -7.1,2.775 ; 7.1,2.775 7.9,2.775
Top Designator:
  text ".Designator" at -7.498,-0.5 h1.5
Top Component Outline:
  lines w0.1: -6.64,2.7 -6.64,4.4 -6.36,4.4 -6.36,2.7 ; -5.64,2.7 -5.64,4.4 -5.36,4.4 -5.36,2.7 ; -4.64,2.7 -4.64,4.4 -4.36,4.4 -4.36,2.7 ; -3.64,2.7 -3.64,4.4 -3.36,4.4 -3.36,2.7 ; -2.64,2.7 -2.64,4.4 -2.36,4.4 -2.36,2.7 ; -1.64,2.7 -1.64,4.4 -1.36,4.4 -1.36,2.7 ; -0.64,2.7 -0.64,4.4 -0.36,4.4 -0.36,2.7 ; 0.36,2.7 0.36,4.4 0.64,4.4 0.64,2.7 ; 1.36,2.7 1.36,4.4 1.64,4.4 1.64,2.7 ; 2.36,2.7 2.36,4.4 2.64,4.4 2.64,2.7 ; 3.36,2.7 3.36,4.4 3.64,4.4 3.64,2.7 ; 4.36,2.7 4.36,4.4 4.64,4.4 4.64,2.7 ; 5.36,2.7 5.36,4.4 5.64,4.4 5.64,2.7 ; 6.36,2.7 6.36,4.4 6.64,4.4 6.64,2.7 ; -10.5,-2.7 -10.5,-1.6 -9.5,-1.6 -9.5,2.7 9.5,2.7 9.5,-1.6 10.5,-1.6 10.5,-2.7 -10.5,-2.7
Top 3D Body:
  lines w0.1: -6.64,2.7 -6.64,4.4 -6.36,4.4 -6.36,2.7 ; -5.64,2.7 -5.64,4.4 -5.36,4.4 -5.36,2.7 ; -4.64,2.7 -4.64,4.4 -4.36,4.4 -4.36,2.7 ; -3.64,2.7 -3.64,4.4 -3.36,4.4 -3.36,2.7 ; -2.64,2.7 -2.64,4.4 -2.36,4.4 -2.36,2.7 ; -1.64,2.7 -1.64,4.4 -1.36,4.4 -1.36,2.7 ; -0.64,2.7 -0.64,4.4 -0.36,4.4 -0.36,2.7 ; 0.36,2.7 0.36,4.4 0.64,4.4 0.64,2.7 ; 1.36,2.7 1.36,4.4 1.64,4.4 1.64,2.7 ; 2.36,2.7 2.36,4.4 2.64,4.4 2.64,2.7 ; 3.36,2.7 3.36,4.4 3.64,4.4 3.64,2.7 ; 4.36,2.7 4.36,4.4 4.64,4.4 4.64,2.7 ; 5.36,2.7 5.36,4.4 5.64,4.4 5.64,2.7 ; 6.36,2.7 6.36,4.4 6.64,4.4 6.64,2.7 ; -10.5,-2.7 10.5,-2.7 10.5,-1.6 9.5,-1.6 9.5,2.7 -9.5,2.7 -9.5,-1.6 -10.5,-1.6 -10.5,-2.7
Top Courtyard:
  lines w0.05: -0.5,0 0.5,0 ; 0,-0.5 0,0.5 ; -10.775,-2.975 10.775,-2.975 10.775,5.15 -10.775,5.15 -10.775,-2.975
3D body "68611414122.stp": height 3.02, standoff 0.02, extent -10.5,-2.7 10.5,4.4

## 68611414422 [mm] "ZIF Connectors, Horizontal, Bottom Contact, pitch 1mm, 14p"
height 3.15
pads (16):
  rect 0.6x2.2 smd: 1(-6.5,3.85) 2(-5.5,3.85) 3(-4.5,3.85) 4(-3.5,3.85) 5(-2.5,3.85) 6(-1.5,3.85) 7(-0.5,3.85) 8(0.5,3.85) 9(1.5,3.85) 10(2.5,3.85) 11(3.5,3.85) 12(4.5,3.85) 13(5.5,3.85) 14(6.5,3.85)
  rect 1.8x2.6 smd: M1(-9.1,1.45) M2(9.1,1.45)
Top Overlay:
  circle w0.25: c-7.4,3.75 r0.125
  lines w0.2: -9.5,-0.15 -9.5,-1.6 -10.575,-1.6 -10.575,-2.775 10.575,-2.775 10.575,-1.6 9.5,-1.6 9.5,-0.15 ; -7.9,2.775 -7.1,2.775 ; 7.1,2.775 7.9,2.775
Top Designator:
  text ".Designator" at -7.498,-0.5 h1.5
Top Component Outline:
  lines w0.1: -6.62,2.7 -6.62,4.4 -6.38,4.4 -6.38,2.7 ; -5.62,2.7 -5.62,4.4 -5.38,4.4 -5.38,2.7 ; -4.62,2.7 -4.62,4.4 -4.38,4.4 -4.38,2.7 ; -3.62,2.7 -3.62,4.4 -3.38,4.4 -3.38,2.7 ; -2.62,2.7 -2.62,4.4 -2.38,4.4 -2.38,2.7 ; -1.62,2.7 -1.62,4.4 -1.38,4.4 -1.38,2.7 ; -0.62,2.7 -0.62,4.4 -0.38,4.4 -0.38,2.7 ; 0.38,2.7 0.38,4.4 0.62,4.4 0.62,2.7 ; 1.38,2.7 1.38,4.4 1.62,4.4 1.62,2.7 ; 2.38,2.7 2.38,4.4 2.62,4.4 2.62,2.7 ; 3.38,2.7 3.38,4.4 3.62,4.4 3.62,2.7 ; 4.38,2.7 4.38,4.4 4.62,4.4 4.62,2.7 ; 5.38,2.7 5.38,4.4 5.62,4.4 5.62,2.7 ; 6.38,2.7 6.38,4.4 6.62,4.4 6.62,2.7 ; -10.5,-2.7 -10.5,-1.6 -9.5,-1.6 -9.5,2.7 9.5,2.7 9.5,-1.6 10.5,-1.6 10.5,-2.7 -10.5,-2.7
Top 3D Body:
  lines w0.1: -6.62,2.7 -6.62,4.4 -6.38,4.4 -6.38,2.7 ; -5.62,2.7 -5.62,4.4 -5.38,4.4 -5.38,2.7 ; -4.62,2.7 -4.62,4.4 -4.38,4.4 -4.38,2.7 ; -3.62,2.7 -3.62,4.4 -3.38,4.4 -3.38,2.7 ; -2.62,2.7 -2.62,4.4 -2.38,4.4 -2.38,2.7 ; -1.62,2.7 -1.62,4.4 -1.38,4.4 -1.38,2.7 ; -0.62,2.7 -0.62,4.4 -0.38,4.4 -0.38,2.7 ; 0.38,2.7 0.38,4.4 0.62,4.4 0.62,2.7 ; 1.38,2.7 1.38,4.4 1.62,4.4 1.62,2.7 ; 2.38,2.7 2.38,4.4 2.62,4.4 2.62,2.7 ; 3.38,2.7 3.38,4.4 3.62,4.4 3.62,2.7 ; 4.38,2.7 4.38,4.4 4.62,4.4 4.62,2.7 ; 5.38,2.7 5.38,4.4 5.62,4.4 5.62,2.7 ; 6.38,2.7 6.38,4.4 6.62,4.4 6.62,2.7 ; -10.5,-2.7 10.5,-2.7 10.5,-1.6 9.5,-1.6 9.5,2.7 -9.5,2.7 -9.5,-1.6 -10.5,-1.6 -10.5,-2.7
Top Courtyard:
  lines w0.05: -0.5,0 0.5,0 ; 0,-0.5 0,0.5 ; -10.775,-2.975 -10.775,5.15 10.775,5.15 10.775,-2.975 -10.775,-2.975
3D body "68611414422.stp": height 3.02, standoff 0.01, extent -10.5,-2.7 10.5,4.4

## 68611514122 [mm] "ZIF Connectors, Horizontal, Top Contact, pitch 1mm, 15p"
height 3.15
pads (17):
  rect 0.6x2.2 smd: 1(-7,3.85) 2(-6,3.85) 3(-5,3.85) 4(-4,3.85) 5(-3,3.85) 6(-2,3.85) 7(-1,3.85) 8(0,3.85) 9(1,3.85) 10(2,3.85) 11(3,3.85) 12(4,3.85) 13(5,3.85) 14(6,3.85) 15(7,3.85)
  rect 1.8x2.6 smd: M1(-9.6,1.45) M2(9.6,1.45)
Top Overlay:
  circle w0.25: c-7.95,3.7 r0.125
  lines w0.2: -10,-0.15 -10,-1.6 -11.075,-1.6 -11.075,-2.775 11.075,-2.775 11.075,-1.6 10,-1.6 10,-0.15 ; -8.4,2.775 -7.6,2.775 ; 7.6,2.775 8.4,2.775
Top Designator:
  text ".Designator" at -7.498,-0.5 h1.5
Top Component Outline:
  lines w0.1: -7.14,2.7 -7.14,4.4 -6.86,4.4 -6.86,2.7 ; -6.14,2.7 -6.14,4.4 -5.86,4.4 -5.86,2.7 ; -5.14,2.7 -5.14,4.4 -4.86,4.4 -4.86,2.7 ; -4.14,2.7 -4.14,4.4 -3.86,4.4 -3.86,2.7 ; -3.14,2.7 -3.14,4.4 -2.86,4.4 -2.86,2.7 ; -2.14,2.7 -2.14,4.4 -1.86,4.4 -1.86,2.7 ; -1.14,2.7 -1.14,4.4 -0.86,4.4 -0.86,2.7 ; -0.14,2.7 -0.14,4.4 0.14,4.4 0.14,2.7 ; 0.86,2.7 0.86,4.4 1.14,4.4 1.14,2.7 ; 1.86,2.7 1.86,4.4 2.14,4.4 2.14,2.7 ; 2.86,2.7 2.86,4.4 3.14,4.4 3.14,2.7 ; 3.86,2.7 3.86,4.4 4.14,4.4 4.14,2.7 ; 4.86,2.7 4.86,4.4 5.14,4.4 5.14,2.7 ; 5.86,2.7 5.86,4.4 6.14,4.4 6.14,2.7 ; 6.86,2.7 6.86,4.4 7.14,4.4 7.14,2.7 ; -11,-2.7 11,-2.7 11,-1.6 10,-1.6 10,2.7 -10,2.7 -10,-1.6 -11,-1.6 -11,-2.7
Top 3D Body:
  lines w0.1: -7.14,2.7 -7.14,4.4 -6.86,4.4 -6.86,2.7 ; -6.14,2.7 -6.14,4.4 -5.86,4.4 -5.86,2.7 ; -5.14,2.7 -5.14,4.4 -4.86,4.4 -4.86,2.7 ; -4.14,2.7 -4.14,4.4 -3.86,4.4 -3.86,2.7 ; -3.14,2.7 -3.14,4.4 -2.86,4.4 -2.86,2.7 ; -2.14,2.7 -2.14,4.4 -1.86,4.4 -1.86,2.7 ; -1.14,2.7 -1.14,4.4 -0.86,4.4 -0.86,2.7 ; -0.14,2.7 -0.14,4.4 0.14,4.4 0.14,2.7 ; 0.86,2.7 0.86,4.4 1.14,4.4 1.14,2.7 ; 1.86,2.7 1.86,4.4 2.14,4.4 2.14,2.7 ; 2.86,2.7 2.86,4.4 3.14,4.4 3.14,2.7 ; 3.86,2.7 3.86,4.4 4.14,4.4 4.14,2.7 ; 4.86,2.7 4.86,4.4 5.14,4.4 5.14,2.7 ; 5.86,2.7 5.86,4.4 6.14,4.4 6.14,2.7 ; 6.86,2.7 6.86,4.4 7.14,4.4 7.14,2.7 ; -11,-2.7 -11,-1.6 -10,-1.6 -10,2.7 10,2.7 10,-1.6 11,-1.6 11,-2.7 -11,-2.7
Top Courtyard:
  lines w0.05: -0.5,0 0.5,0 ; 0,-0.5 0,0.5 ; -11.275,-2.975 -11.275,5.15 11.275,5.15 11.275,-2.975 -11.275,-2.975
3D body "68611514122.stp": height 3.02, standoff 0.02, extent -11,-2.7 11,4.4